# EAGLE library part RCTRL_CONNECTOR_IOS_2X9 (library igorsales)
2X9 HEADER 2.54MM for RCTRL IOS
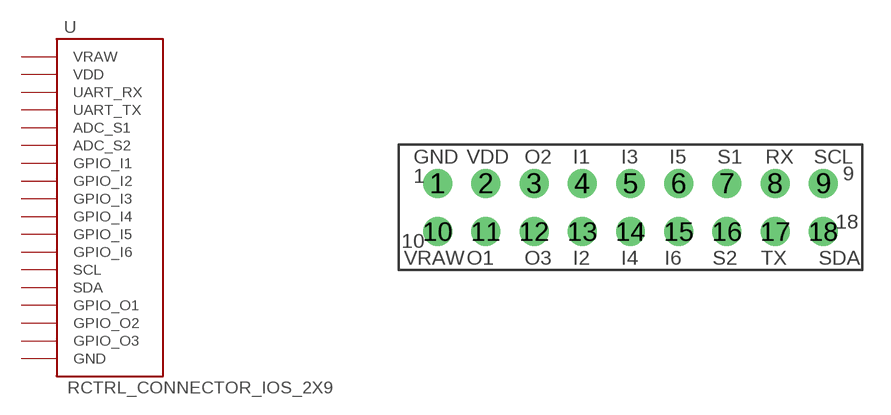
[diagram p3: symbol with the pads of HEADER2X9-254MM; footprint HEADER2X9-254MM]

Designator prefix -

## RCTRL_CONNECTOR_IOS_2X9  [HEADER2X9-254MM]
1  GND  pwr
2  VDD  pwr
3  GPIO_O2  out
4  GPIO_I1  in
5  GPIO_I3  in
6  GPIO_I5  in
7  ADC_S1  in
8  UART_RX
9  SCL
10  VRAW  pwr
11  GPIO_O1  out
12  GPIO_O3  out
13  GPIO_I2  in
14  GPIO_I4  in
15  GPIO_I6  in
16  ADC_S2  in
17  UART_TX
18  SDA

## Footprint HEADER2X9-254MM (pad centres in mm)
drill 1.016: 1 -10.16,1.27; 2 -7.62,1.27; 3 -5.08,1.27; 4 -2.54,1.27; 5 0,1.27; 6 2.54,1.27; 7 5.08,1.27; 8 7.62,1.27; 9 10.16,1.27; 10 -10.16,-1.27; 11 -7.62,-1.27; 12 -5.08,-1.27; 13 -2.54,-1.27; 14 0,-1.27; 15 2.54,-1.27; 16 5.08,-1.27; 17 7.62,-1.27; 18 10.16,-1.27